# Altium footprint library SamacSys.PcbLib: 15 footprints
Each footprint in its own frame and in the unit in brackets; x right, y up, seen from the top. Pads: shape width x height; smd on the part's side, far side on the other; paste and mask are expansions set on the pad; w line width, h text height; cw(c..) or ccw(c..) is an arc to the next point about the centre after c.
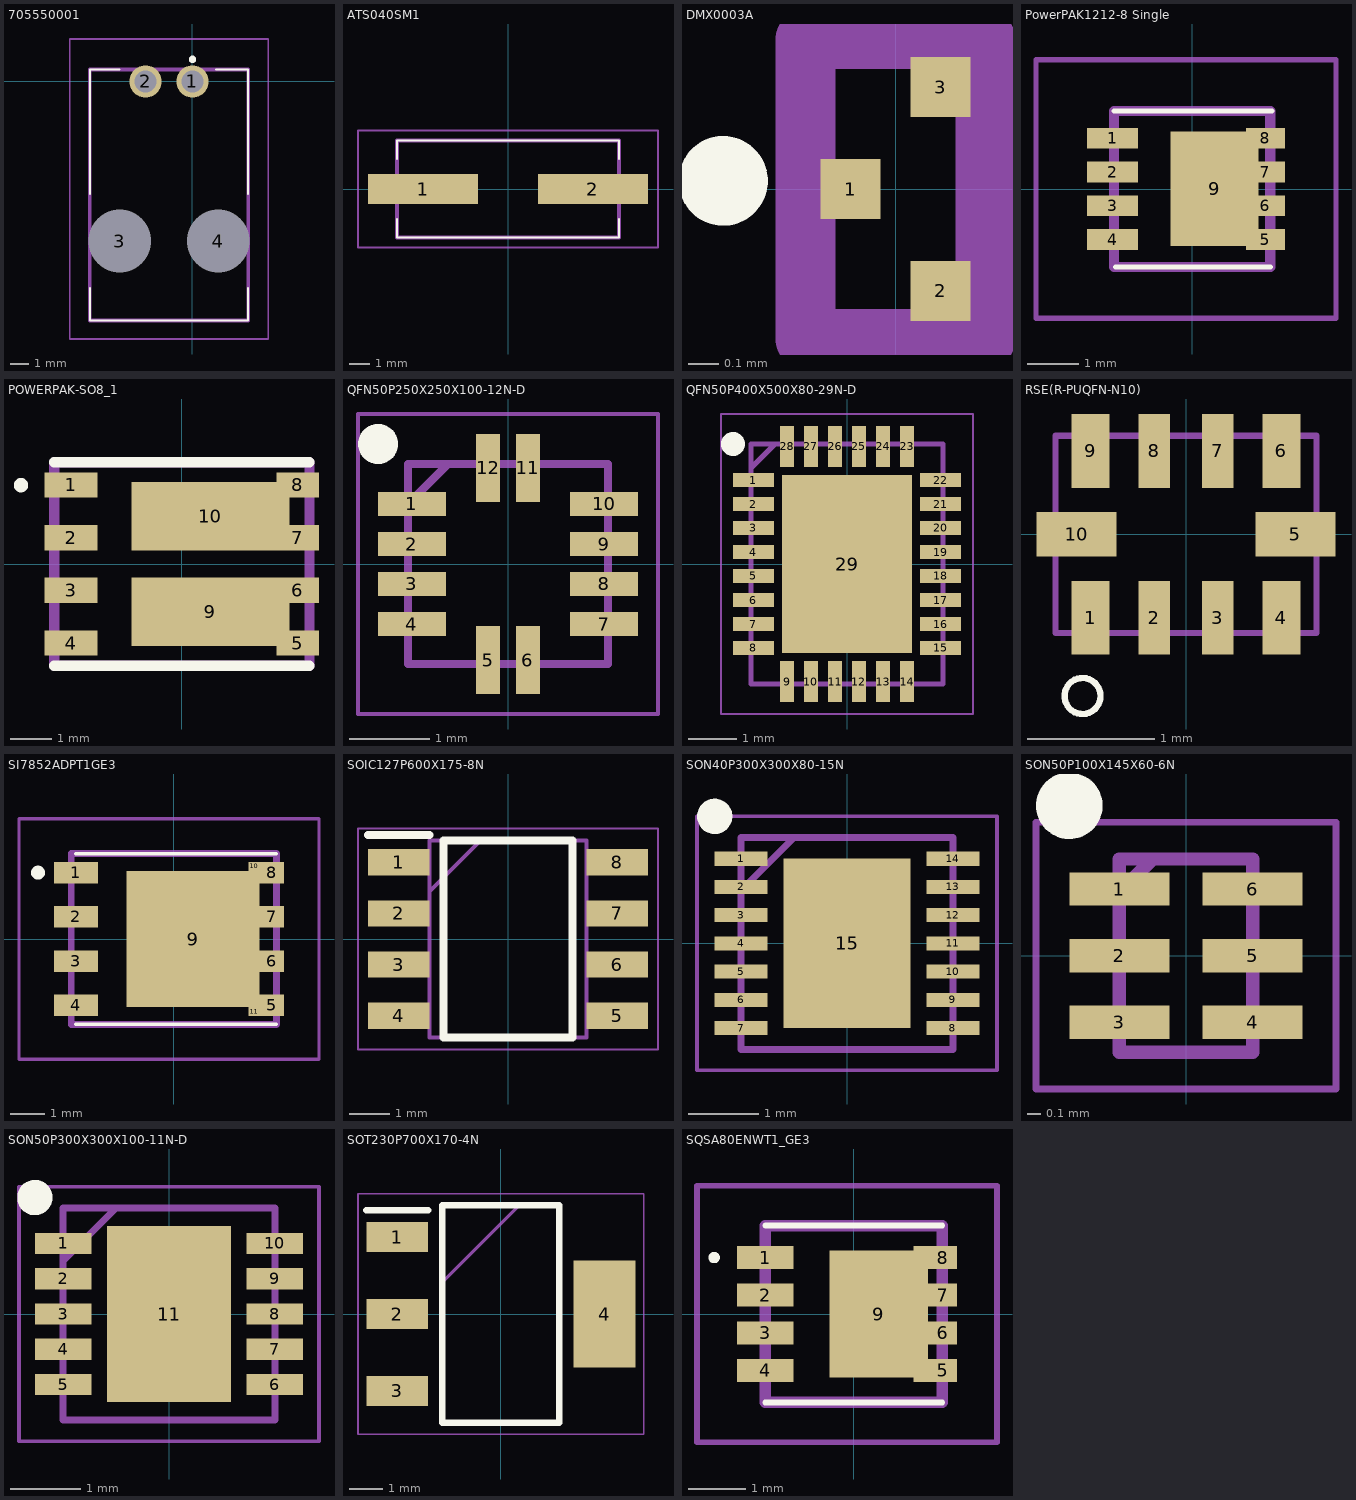
[diagram p0: the footprints below, top view; thin cyan lines are the x and y axes]

## 705550001 [mm]
pads (4):
  round 1.755 hole 1.17: 1(0,0) 2(-2.54,0)
  round 1.7 hole 3.4 unplated: 3(-3.94,-8.64) 4(1.4,-8.64)
Top Overlay:
  lines w0.1: -5.555,-11.18 -5.555,-12.94 3.015,-12.94 3.015,-11.18 ; -5.555,-6.1 -5.555,0.65 -3.94,0.65 ; 1.27,0.65 3.015,0.65 3.015,-6.1
  lines w0.2: -0.1,1.2 cw(c0,1.2) 0.1,1.2 cw(c0,1.2) -0.1,1.2
Mechanical 13:
  lines w0.2: -5.555,-12.94 3.015,-12.94 3.015,0.65 -5.555,0.65 -5.555,-12.94
Mechanical 15:
  lines w0.1: -6.64,-13.94 4.1,-13.94 4.1,2.3 -6.64,2.3 -6.64,-13.94
3D body "705550001.stp": height 7.06, standoff -3.22, extent -5.512,-12.954 2.87,0.635

## ATS040SM1 [mm]
pads (2):
  rect 5.5x1.5 smd: 1(-4.25,0) 2(4.25,0)
Top Overlay:
  lines w0.1: -5.55,-1.5 -5.55,-2.415 5.5,-2.415 5.55,-2.415 5.55,-1.5 ; -5.55,1.5 -5.55,2.415 5.55,2.415 5.55,1.5
Mechanical 13:
  lines w0.2: -5.55,-2.415 -5.55,2.415 5.55,2.415 5.55,-2.415 -5.55,-2.415
Mechanical 15:
  lines w0.1: -7.5,-2.915 -7.5,2.915 7.5,2.915 7.5,-2.915 -7.5,-2.915
3D body "ATS08ASM-1E.stp": height 4.4, standoff 0, extent -6.85,-2.415 6.85,2.415

## DMX0003A [mm]
pads (3):
  rect 0.2x0.2 smd: 1(-0.15,0) 2(0.15,-0.34) 3(0.15,0.34)
Top Overlay:
  circle w0.2: c-0.575,0.027 r0.049
Mechanical 13:
  lines w0.2: -0.3,-0.5 0.3,-0.5 0.3,0.5 -0.3,0.5 -0.3,-0.5

## PowerPAK1212-8 Single [mm]
pads (9):
  rect 0.99x0.405 smd: 1(-1.555,0.992) 2(-1.555,0.332) 3(-1.555,-0.328) 4(-1.555,-0.988)
  rect 0.76x0.405 smd: 5(1.43,-0.988) 6(1.43,-0.328) 7(1.43,0.332) 8(1.43,0.992)
  rect 1.725x2.235 smd: 9(0.438,0.002)
Top Layer:
  region: -0.432,1.118
Top Overlay:
  lines w0.1: -1.525,1.525 1.555,1.525 ; -1.5,-1.525 1.525,-1.525
Mechanical 13:
  lines w0.2: -1.525,-1.525 -1.525,1.525 1.525,1.525 1.525,-1.525 -1.525,-1.525
Mechanical 15:
  lines w0.1: -3.05,-2.525 -3.05,2.525 2.81,2.525 2.81,-2.525 -3.05,-2.525
3D body "SQSA80ENW-T1_GE3.stp": height 1.22, standoff 0, extent -2.01,-1.548 1.77,1.552

## POWERPAK-SO8_1 [mm]
pads (10):
  rect 1.27x0.61 smd: 1(-2.67,1.905) 2(-2.67,0.635) 3(-2.67,-0.635) 4(-2.67,-1.905)
  rect 1.02x0.61 smd: 5(2.795,-1.905) 6(2.795,-0.635) 7(2.795,0.635) 8(2.795,1.905)
  rect 3.81x1.65 smd: 9(0.69,-1.155) 10(0.69,1.155)
Top Overlay:
  circle w0.25: c-3.878,1.899 r0.046
  lines w0.25: -3.075,-2.45 3.075,-2.45 ; -3.075,2.45 3.075,2.45
Mechanical 13:
  lines w0.25: -3.075,-2.45 3.075,-2.45 3.075,2.45 -3.075,2.45 -3.075,-2.45
3D body "SIRA80DP-T1-RE3.stp": height 1.22, standoff 0, extent -3.244,-2.45 3.244,2.45

## QFN50P250X250X100-12N-D [mm]
pads (12):
  rect 0.85x0.3 smd: 1(-1.2,0.75) 2(-1.2,0.25) 3(-1.2,-0.25) 4(-1.2,-0.75) 7(1.2,-0.75) 8(1.2,-0.25) 9(1.2,0.25) 10(1.2,0.75)
  rect 0.3x0.85 smd: 5(-0.25,-1.2) 6(0.25,-1.2) 11(0.25,1.2) 12(-0.25,1.2)
Top Overlay:
  circle w0.25: c-1.625,1.5 r0.125
Mechanical 13:
  lines w0.1: -1.25,0.75 -0.75,1.25 ; -1.25,-1.25 -1.25,1.25 1.25,1.25 1.25,-1.25 -1.25,-1.25
Mechanical 15:
  lines w0.05: -1.875,-1.875 -1.875,1.875 1.875,1.875 1.875,-1.875 -1.875,-1.875
3D body "TPS63051RMWR.stp": height 1, standoff 0, extent -1.3,-1.3 1.3,1.3

## QFN50P400X500X80-29N-D [mm]
pads (29):
  rect 0.85x0.3 smd mask+0.05: 1(-1.95,1.75) 2(-1.95,1.25) 3(-1.95,0.75) 4(-1.95,0.25) 5(-1.95,-0.25) 6(-1.95,-0.75) 7(-1.95,-1.25) 8(-1.95,-1.75) 15(1.95,-1.75) 16(1.95,-1.25) 17(1.95,-0.75) 18(1.95,-0.25) 19(1.95,0.25) 20(1.95,0.75) 21(1.95,1.25) 22(1.95,1.75)
  rect 0.3x0.85 smd mask+0.05: 9(-1.25,-2.45) 10(-0.75,-2.45) 11(-0.25,-2.45) 12(0.25,-2.45) 13(0.75,-2.45) 14(1.25,-2.45) 23(1.25,2.45) 24(0.75,2.45) 25(0.25,2.45) 26(-0.25,2.45) 27(-0.75,2.45) 28(-1.25,2.45)
  rect 2.7x3.7 smd mask+0.05: 29(0,0)
Top Overlay:
  circle w0.25: c-2.375,2.5 r0.125
Mechanical 13:
  lines w0.1: -2,2 -1.5,2.5 ; -2,-2.5 2,-2.5 2,2.5 -2,2.5 -2,-2.5
Mechanical 15:
  lines w0.05: -2.625,-3.125 2.625,-3.125 2.625,3.125 -2.625,3.125 -2.625,-3.125
3D body "LTC4155EUFD#PBF.stp": height 0.8, standoff 0, extent -2.05,-2.55 2.05,2.55

## RSE(R-PUQFN-N10) [mm]
pads (10):
  rect 0.3x0.58 smd: 1(-0.75,-0.655) 4(0.75,-0.655) 6(0.75,0.655) 9(-0.75,0.655)
  rect 0.25x0.58 smd: 2(-0.25,-0.655) 3(0.25,-0.655) 7(0.25,0.655) 8(-0.25,0.655)
  rect 0.63x0.35 smd: 5(0.86,0) 10(-0.86,0)
Top Overlay:
  circle w0.05: c-0.813,-1.27 r0.141
Mechanical 13:
  lines w0.05: -1.025,-0.775 1.025,-0.775 1.025,0.775 -1.025,0.775 -1.025,-0.775

## SI7852ADPT1GE3 [mm]
pads (11):
  rect 1.27x0.61 smd: 1(-2.81,1.905) 2(-2.81,0.635) 3(-2.81,-0.635) 4(-2.81,-1.905)
  rect 0.71x0.61 smd: 5(2.81,-1.905) 6(2.81,-0.635) 7(2.81,0.635) 8(2.81,1.905)
  rect 3.81x3.91 smd: 9(0.55,0)
  rect 0.31x0.255 smd: 10(2.3,2.083) 11(2.3,-2.083)
Top Overlay:
  lines w0.1: -2.81,-2.45 2.945,-2.45 ; -2.81,2.45 2.945,2.45
  lines w0.2: -4,1.905 ccw(c-3.9,1.905) -3.8,1.905 ccw(c-3.9,1.905) -4,1.905
Mechanical 13:
  lines w0.2: -2.945,-2.45 -2.945,2.45 2.945,2.45 2.945,-2.45 -2.945,-2.45
Mechanical 15:
  lines w0.1: -4.445,-3.45 -4.445,3.45 4.165,3.45 4.165,-3.45 -4.445,-3.45
3D body "SIRA80DP-T1-RE3.stp": height 1.22, standoff 0, extent -3.384,-2.45 3.104,2.45

## SOIC127P600X175-8N [mm]
pads (8):
  rect 1.525x0.65 smd: 1(-2.712,1.905) 2(-2.712,0.635) 3(-2.712,-0.635) 4(-2.712,-1.905) 5(2.712,-1.905) 6(2.712,-0.635) 7(2.712,0.635) 8(2.712,1.905)
Top Overlay:
  lines w0.2: -3.475,2.58 -1.95,2.58 ; -1.6,-2.45 1.6,-2.45 1.6,2.45 -1.6,2.45 -1.6,-2.45
Mechanical 13:
  lines w0.1: -1.95,1.18 -0.68,2.45 ; -1.95,-2.45 1.95,-2.45 1.95,2.45 -1.95,2.45 -1.95,-2.45
Mechanical 15:
  lines w0.05: -3.725,-2.75 3.725,-2.75 3.725,2.75 -3.725,2.75 -3.725,-2.75
3D body "NE555DR.stp": height 1.75, standoff 0, extent -3,-2.45 3,2.45

## SON40P300X300X80-15N [mm]
pads (15):
  rect 0.75x0.2 smd: 1(-1.5,1.2) 2(-1.5,0.8) 3(-1.5,0.4) 4(-1.5,0) 5(-1.5,-0.4) 6(-1.5,-0.8) 7(-1.5,-1.2) 8(1.5,-1.2) 9(1.5,-0.8) 10(1.5,-0.4) 11(1.5,0) 12(1.5,0.4) 13(1.5,0.8) 14(1.5,1.2)
  rect 1.8x2.4 smd: 15(0,0)
Top Overlay:
  circle w0.25: c-1.875,1.8 r0.125
Mechanical 13:
  lines w0.1: -1.5,0.75 -0.75,1.5 ; -1.5,-1.5 -1.5,1.5 1.5,1.5 1.5,-1.5 -1.5,-1.5
Mechanical 15:
  lines w0.05: -2.125,-1.8 -2.125,1.8 2.125,1.8 2.125,-1.8 -2.125,-1.8
3D body "MAX17260SETD+.stp": height 0.8, standoff 0, extent -1.55,-1.5 1.55,1.5

## SON50P100X145X60-6N [mm]
pads (6):
  rect 0.75x0.25 smd: 1(-0.5,0.5) 2(-0.5,0) 3(-0.5,-0.5) 4(0.5,-0.5) 5(0.5,0) 6(0.5,0.5)
Top Overlay:
  circle w0.25: c-0.875,1.125 r0.125
Mechanical 13:
  lines w0.1: -0.5,0.475 -0.25,0.725 ; -0.5,-0.725 -0.5,0.725 0.5,0.725 0.5,-0.725 -0.5,-0.725
Mechanical 15:
  lines w0.05: -1.125,-1 -1.125,1 1.125,1 1.125,-1 -1.125,-1
3D body "TPD4S012DRYR.stp": height 0.6, standoff 0, extent -0.55,-0.725 0.55,0.725

## SON50P300X300X100-11N-D [mm]
pads (11):
  rect 0.8x0.3 smd: 1(-1.5,1) 2(-1.5,0.5) 3(-1.5,0) 4(-1.5,-0.5) 5(-1.5,-1) 6(1.5,-1) 7(1.5,-0.5) 8(1.5,0) 9(1.5,0.5) 10(1.5,1)
  rect 1.75x2.5 smd: 11(0,0)
Top Overlay:
  circle w0.25: c-1.9,1.65 r0.125
Mechanical 13:
  lines w0.1: -1.5,0.75 -0.75,1.5 ; -1.5,-1.5 -1.5,1.5 1.5,1.5 1.5,-1.5 -1.5,-1.5
Mechanical 15:
  lines w0.05: -2.125,-1.8 -2.125,1.8 2.125,1.8 2.125,-1.8 -2.125,-1.8
3D body "TPS63001DRCR.stp": height 1, standoff 0, extent -1.55,-1.5 1.55,1.5

## SOT230P700X170-4N [mm]
pads (4):
  rect 1.85x0.9 smd: 1(-3.1,2.3) 2(-3.1,0) 3(-3.1,-2.3)
  rect 1.85x3.2 smd: 4(3.1,0)
Top Overlay:
  lines w0.2: -4.025,3.1 -2.175,3.1 ; -1.75,-3.25 -1.75,3.25 1.75,3.25 1.75,-3.25 -1.75,-3.25
Mechanical 13:
  lines w0.1: -1.75,0.95 0.55,3.25 ; -1.75,-3.25 -1.75,3.25 1.75,3.25 1.75,-3.25 -1.75,-3.25
Mechanical 15:
  lines w0.05: -4.275,-3.6 -4.275,3.6 4.275,3.6 4.275,-3.6 -4.275,-3.6
3D body "AZ1117IH-3.3TRG1.stp": height 1.7, standoff 0, extent -3.5,-3.25 3.5,3.25

## SQSA80ENWT1_GE3 [mm]
pads (11):
  rect 0.99x0.405 smd: 1(-1.555,0.99) 2(-1.555,0.33) 3(-1.555,-0.33) 4(-1.555,-0.99)
  rect 0.51x0.405 smd: 5(1.555,-0.99) 6(1.555,-0.33) 7(1.555,0.33) 8(1.555,0.99)
  rect 1.725x2.235 smd: 9(0.438,0)
  rect 0.25x0.075 smd: 10(1.175,1.155) 11(1.175,-1.155)
Top Overlay:
  lines w0.1: -1.555,-1.55 1.55,-1.55 ; -1.55,1.55 1.55,1.55 ; -2.5,0.99 cw(c-2.45,0.99) -2.4,0.99 cw(c-2.45,0.99) -2.5,0.99
Mechanical 13:
  lines w0.2: -1.55,-1.55 1.55,-1.55 1.55,1.55 -1.55,1.55 -1.55,-1.55
Mechanical 15:
  lines w0.1: -2.75,-2.25 2.51,-2.25 2.51,2.25 -2.75,2.25 -2.75,-2.25
3D body "SQSA80ENW-T1_GE3.stp": height 1.22, standoff 0, extent -2.01,-1.55 1.77,1.55